# EAGLE library part STM32 (library elements_cs2016)
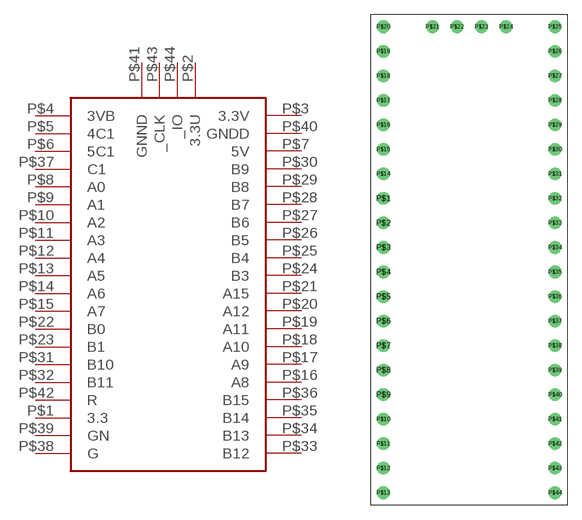
[diagram p4: symbol with the pads of STM32; footprint STM32]

Designator prefix -

## STM32  [STM32]
P$1  3.3
P$2  3.3U
P$3  3.3V
P$4  3VB
P$5  4C1
P$6  5C1
P$7  5V
P$8  A0
P$9  A1
P$10  A2
P$11  A3
P$12  A4
P$13  A5
P$14  A6
P$15  A7
P$16  A8
P$17  A9
P$18  A10
P$19  A11
P$20  A12
P$21  A15
P$22  B0
P$23  B1
P$24  B3
P$25  B4
P$26  B5
P$27  B6
P$28  B7
P$29  B8
P$30  B9
P$31  B10
P$32  B11
P$33  B12
P$34  B13
P$35  B14
P$36  B15
P$37  C1
P$38  G
P$39  GN
P$40  GNDD
P$41  GNND
P$42  R
P$43  _CLK
P$44  _IO

## Footprint STM32 (pad centres in mm)
drill 0.8: P$1 -5.08,12.7; P$2 -5.08,10.16; P$3 -5.08,7.62; P$4 -5.08,5.08; P$5 -5.08,2.54; P$6 -5.08,0; P$7 -5.08,-2.54; P$8 -5.08,-5.08; P$9 -5.08,-7.62; P$10 -5.08,-10.16; P$11 -5.08,-12.7; P$12 -5.08,-15.24; P$13 -5.08,-17.78; P$14 -5.08,15.24; P$15 -5.08,17.78; P$16 -5.08,20.32; P$17 -5.08,22.86; P$18 -5.08,25.4; P$19 -5.08,27.94; P$20 -5.08,30.48; P$21 0,30.48; P$22 2.54,30.48; P$23 5.08,30.48; P$24 7.62,30.48; P$25 12.7,30.48; P$26 12.7,27.94; P$27 12.7,25.4; P$28 12.7,22.86; P$29 12.7,20.32; P$30 12.7,17.78; P$31 12.7,15.24; P$32 12.7,12.7; P$33 12.7,10.16; P$34 12.7,7.62; P$35 12.7,5.08; P$36 12.7,2.54; P$37 12.7,0; P$38 12.7,-2.54; P$39 12.7,-5.08; P$40 12.7,-7.62; P$41 12.7,-10.16; P$42 12.7,-12.7; P$43 12.7,-15.24; P$44 12.7,-17.78